# Altium footprint library L2_4PDT_RELAY.PcbLib: 1 footprints
Each footprint in its own frame and in the unit in brackets; x right, y up, seen from the top. Pads: shape width x height; smd on the part's side, far side on the other; paste and mask are expansions set on the pad; w line width, h text height; cw(c..) or ccw(c..) is an arc to the next point about the centre after c.
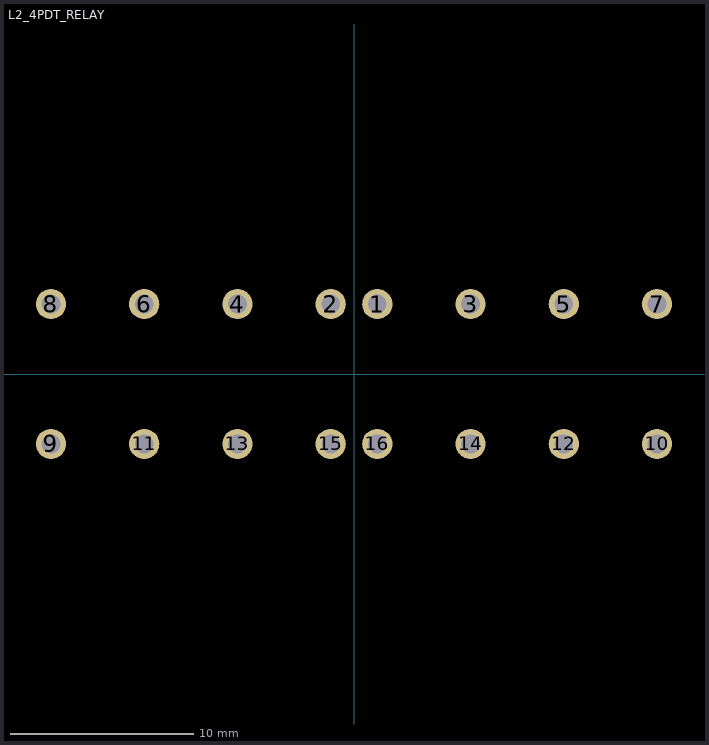
[diagram p0: the footprint, top view; thin cyan lines are the x and y axes]

## L2_4PDT_RELAY [mil]
pads (16):
  round 65 hole 40: 1(50,150) 2(-50,150) 3(250,150) 4(-250,150) 5(450,150) 6(-450,150) 7(650,150) 8(-650,150) 9(-650,-150) 10(650,-150) 11(-450,-150) 12(450,-150) 13(-250,-150) 14(250,-150) 15(-50,-150)
  round 65 hole 40 paste+0: 16(50,-150)
3D body: height 390, standoff 0, extent -795,-195 795,195